# Altium schematic symbol library Connectors.SchLib: 3 symbols
Pins are listed as number, name and electrical type; pins without a type are passive.

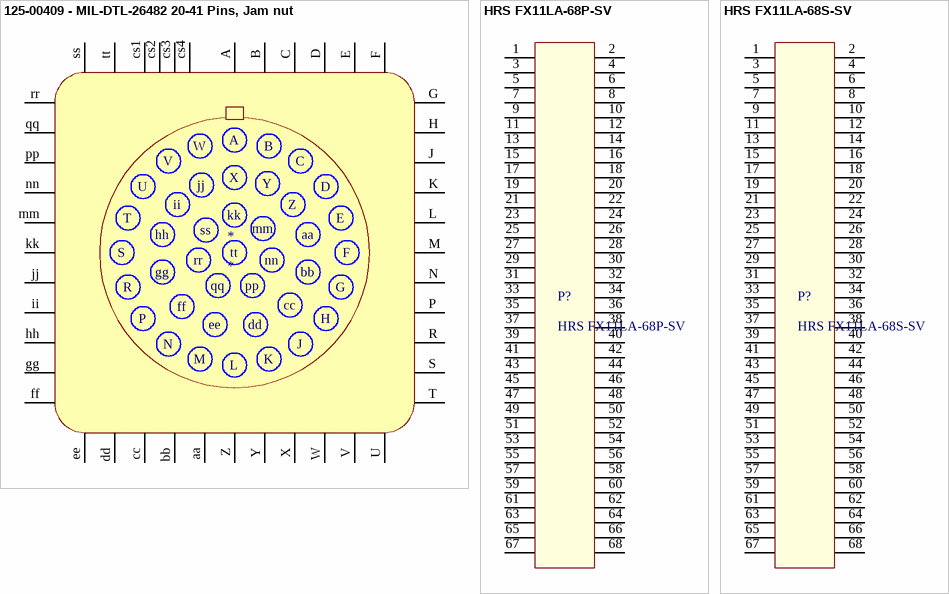
[diagram p0: symbols 125-00409 - MIL-DTL-26482 20-41 Pins, Jam nut to HRS FX11LA-68S-SV]

## 125-00409 - MIL-DTL-26482 20-41 Pins, Jam nut
designator *
footprint MS-3116 Size 20-41, Male (Round Size 20, 41 pos, Male Pins)
pins: A, aa, B, bb, C, cc, cs1, cs2, cs3, cs4, D, dd, E, ee, F, ff, G, gg, H, hh, ii, J, jj, K, kk, L, M, mm, N, nn, P, pp, qq, R, rr, S, ss, T, tt, U, V, W, X, Y, Z

## HRS FX11LA-68P-SV
designator P?
HIROSE 68 pin header w/o ground; Manuf p/n: FX11LA-68P-SV(21); Vendor: DigiKey; Vendor Mult.: 1; Vendor p/n: H2533CT-ND; COST: 3.42; Manufacturer: HiRose; VALUE: 68pin Header
footprint FX11LA-68P (HIROSE HEADER 68 PIN)
pins: 1, 2, 3, 4, 5, 6, 7, 8, 9, 10, 11, 12, 13, 14, 15, 16, 17, 18, 19, 20, 21, 22, 23, 24, 25, 26, 27, 28, 29, 30, 31, 32, 33, 34, 35, 36, 37, 38, 39, 40, 41, 42, 43, 44, 45, 46, 47, 48, 49, 50, 51, 52, 53, 54, 55, 56, 57, 58, 59, 60, 61, 62, 63, 64, 65, 66, 67, 68

## HRS FX11LA-68S-SV
designator P?
HIROSE 68 pin receptacle w/o ground; Manuf p/n: FX11LA-68S-SV(21); VALUE: 68pin Recepacle; Vendor: DigiKey; Vendor Mult.: 1; Vendor p/n: H2541CT-ND; COST: 4.03; Manufacturer: HiRose
footprint FX11LA-68S-SV (HIROSE FX11L 2.0 mm stack height, w/ guidepost, receptacle)
pins: 1, 2, 3, 4, 5, 6, 7, 8, 9, 10, 11, 12, 13, 14, 15, 16, 17, 18, 19, 20, 21, 22, 23, 24, 25, 26, 27, 28, 29, 30, 31, 32, 33, 34, 35, 36, 37, 38, 39, 40, 41, 42, 43, 44, 45, 46, 47, 48, 49, 50, 51, 52, 53, 54, 55, 56, 57, 58, 59, 60, 61, 62, 63, 64, 65, 66, 67, 68